# EAGLE library part INA181 (library Custom_old)
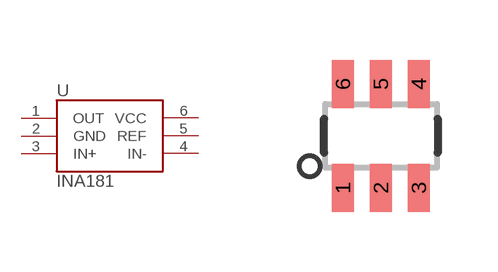
[diagram p33: symbol with the pads of SOT23-6; footprint SOT23-6]

Designator prefix -

## INA181  [SOT23-6]
1  OUT
2  GND
3  IN+
4  IN-
5  REF
6  VCC

## Footprint SOT23-6 (pad centres in mm)
Small Outline Transistor
smd 0.55 x 1.2: 1 -0.95,-1.3; 2 0,-1.3; 3 0.95,-1.3; 4 0.95,1.3; 5 0,1.3; 6 -0.95,1.3